# EAGLE library part TC-2050-SOCKET (library GClue-Debbuger)
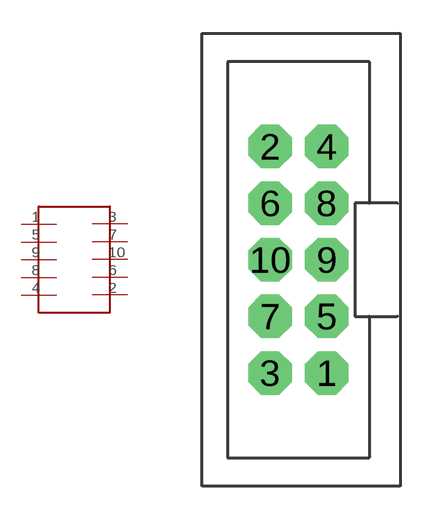
[diagram p0: symbol with the pads of TC-2050-SOCKET; footprint TC-2050-SOCKET]

Designator prefix -

## TC-2050-SOCKET  [TC-2050-SOCKET]
1  1
2  2
3  3
4  4
5  5
6  6
7  7
8  8
9  9
10  10

## Footprint TC-2050-SOCKET (pad centres in mm)
drill 1.3 octagon: 1 1.27,-8.89; 2 -1.27,1.27; 3 -1.27,-8.89; 4 1.27,1.27; 5 1.27,-6.35; 6 -1.27,-1.27; 7 -1.27,-6.35; 8 1.27,-1.27; 9 1.27,-3.81; 10 -1.27,-3.81